# Altium footprint library 296-21569-1-ND.PcbLib: 1 footprints
Each footprint in its own frame and in the unit in brackets; x right, y up, seen from the top. Pads: shape width x height; smd on the part's side, far side on the other; paste and mask are expansions set on the pad; w line width, h text height; cw(c..) or ccw(c..) is an arc to the next point about the centre after c.
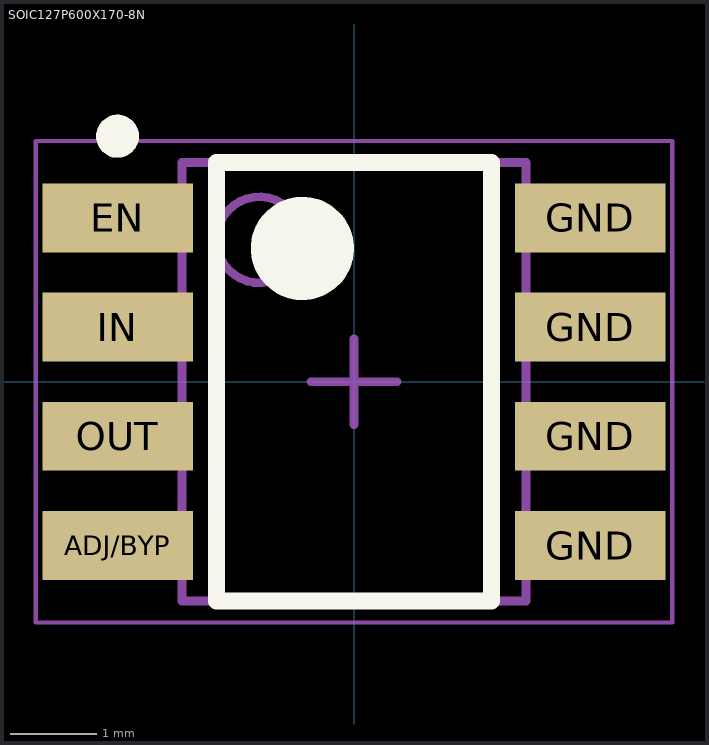
[diagram p0: the footprint, top view; thin cyan lines are the x and y axes]

## SOIC127P600X170-8N [mm] "SOIC, 8-Leads, Body 5.00x3.90mm, Pitch 1.27mm, IPC Medium Density"
height 1.7
pads (8):
  rect 1.75x0.8 smd: ADJ/BYP(-2.75,-1.905) EN(-2.75,1.905) GND(2.75,-1.905) GND(2.75,-0.635) GND(2.75,0.635) GND(2.75,1.905) IN(-2.75,0.635) OUT(-2.75,-0.635)
Top Overlay:
  circle w0.6: c-0.6,1.55 r0.3
  circle w0.25: c-2.75,2.855 r0.125
  lines w0.2: -1.6,-2.55 1.6,-2.55 1.6,2.55 -1.6,2.55 -1.6,-2.55
Mechanical 13:
  circle w0.1: c-1.1,1.65 r0.5
  lines w0.1: -2,-2.55 2,-2.55 2,2.55 -2,2.55 -2,-2.55
Mechanical 15:
  lines w0.05: -3.7,-2.8 3.7,-2.8 3.7,2.8 -3.7,2.8 -3.7,-2.8
  lines w0.1: -0.5,0 0.5,0 ; 0,-0.5 0,0.5
3D body: height 1.7, standoff 0.1, extent -2,-2.55 2,2.55